# Altium footprint library 00318201G.PcbLib: 1 footprints
Each footprint in its own frame and in the unit in brackets; x right, y up, seen from the top. Pads: shape width x height; smd on the part's side, far side on the other; paste and mask are expansions set on the pad; w line width, h text height; cw(c..) or ccw(c..) is an arc to the next point about the centre after c.
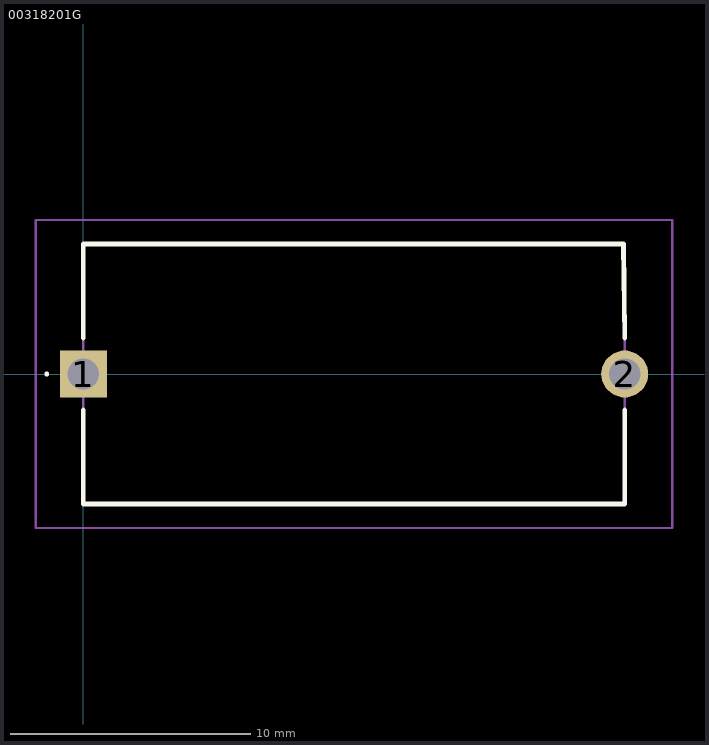
[diagram p0: the footprint, top view; thin cyan lines are the x and y axes]

## 00318201G [mm]
pads (2):
  rect 1.95x1.95 hole 1.3: 1(0,0)
  round 1.95 hole 1.3: 2(22.5,0)
Top Overlay:
  lines w0.1: -1.57,0 cw(c-1.52,0) -1.47,0 ; -1.57,0 -1.57,0 ; -1.57,0 ccw(c-1.52,0) -1.47,0 ; -1.47,0 -1.47,0
  lines w0.2: 0,-1.5 0,-5.4 22.5,-5.4 22.5,-1.5 ; 0,1.5 0,5.4 22.45,5.4 22.5,1.5
Mechanical 15:
  lines w0.1: 0,-5.4 22.5,-5.4 22.5,5.4 0,5.4 0,-5.4
Mechanical 20:
  lines w0.1: -1.975,-6.4 24.475,-6.4 24.475,6.4 -1.975,6.4 -1.975,-6.4